# Altium schematic symbol library XTAL_2P.SchLib: 1 symbol
Pins are listed as number, name and electrical type; pins without a type are passive.

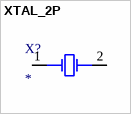
[diagram p0: symbol XTAL_2P]

## XTAL_2P
designator X?
Value: *
pins: 1 OSC1, 2 OSC2